# EAGLE library part VDIP2 (library ChapR-Custom)
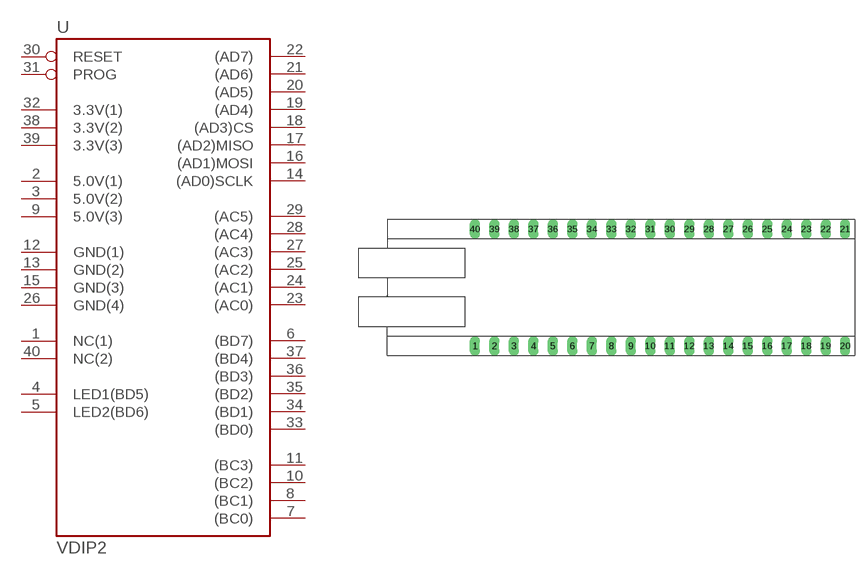
[diagram p0: symbol with the pads of VDIP2; footprint VDIP2]

Designator prefix -

## VDIP2  [VDIP2]
1  NC(1)  pwr
2  5.0V(1)  pwr
3  5.0V(2)  pwr
4  LED1(BD5)  pwr
5  LED2(BD6)  pwr
6  (BD7)
7  (BC0)
8  (BC1)
9  5.0V(3)  pwr
10  (BC2)
11  (BC3)
12  GND(1)  pwr
13  GND(2)  pwr
14  (AD0)SCLK
15  GND(3)  pwr
16  (AD1)MOSI
17  (AD2)MISO
18  (AD3)CS
19  (AD4)
20  (AD5)
21  (AD6)
22  (AD7)
23  (AC0)
24  (AC1)
25  (AC2)
26  GND(4)  pwr
27  (AC3)
28  (AC4)
29  (AC5)
30  RESET  in
31  PROG  in
32  3.3V(1)  in
33  (BD0)
34  (BD1)
35  (BD2)
36  (BD3)
37  (BD4)
38  3.3V(2)  pwr
39  3.3V(3)  in
40  NC(2)  pwr

## Footprint VDIP2 (pad centres in mm)
The VDIP2 package.
drill 0.813 long: 1 -24.13,-7.62; 2 -21.59,-7.62; 3 -19.05,-7.62; 4 -16.51,-7.62; 5 -13.97,-7.62; 6 -11.43,-7.62; 7 -8.89,-7.62; 8 -6.35,-7.62; 9 -3.81,-7.62; 10 -1.27,-7.62; 11 1.27,-7.62; 12 3.81,-7.62; 13 6.35,-7.62; 14 8.89,-7.62; 15 11.43,-7.62; 16 13.97,-7.62; 17 16.51,-7.62; 18 19.05,-7.62; 19 21.59,-7.62; 20 24.13,-7.62; 21 24.13,7.62; 22 21.59,7.62; 23 19.05,7.62; 24 16.51,7.62; 25 13.97,7.62; 26 11.43,7.62; 27 8.89,7.62; 28 6.35,7.62; 29 3.81,7.62; 30 1.27,7.62; 31 -1.27,7.62; 32 -3.81,7.62; 33 -6.35,7.62; 34 -8.89,7.62; 35 -11.43,7.62; 36 -13.97,7.62; 37 -16.51,7.62; 38 -19.05,7.62; 39 -21.59,7.62; 40 -24.13,7.62